# EAGLE library part AT91SAM7X (library JLB6_Processor)
AT91SAM7X Atmel smart ARM
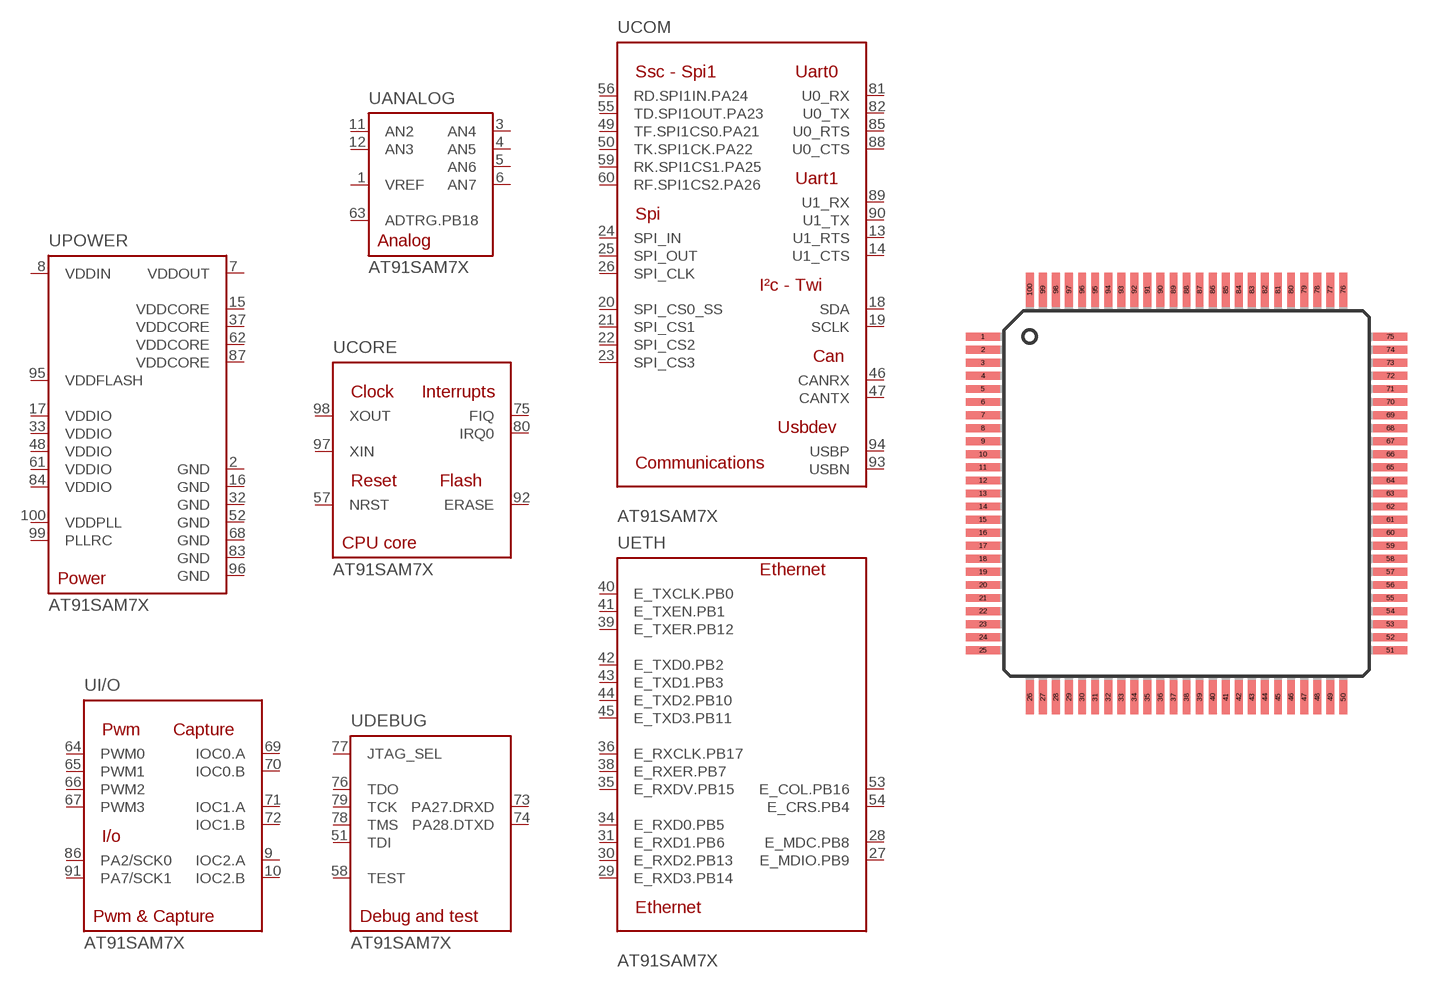
[diagram p9: symbol with the pads of TQFP100-05; footprint TQFP100-05]

Designator prefix U; gates CORE=91SAM7X_CPU DEBUG=91SAM7X_DEBUG I/O=91SAM7X_IO ANALOG=91SAM7X_ANALOG POWER=91SAM7X_PWR ETH=91SAM7X_ETHER COM=91SAM7X_COM

## AT91SAM7X  [TQFP100-05]
1  ANALOG:VREF  in
2  POWER:GND  pwr
3  ANALOG:AN4
4  ANALOG:AN5
5  ANALOG:AN6
6  ANALOG:AN7
7  POWER:VDDOUT  pwr
8  POWER:VDDIN  pwr
9  I/O:IOC2.A
10  I/O:IOC2.B
11  ANALOG:AN2
12  ANALOG:AN3
13  COM:U1_RTS
14  COM:U1_CTS
15  POWER:VDDCORE  pwr
16  POWER:GND  pwr
17  POWER:VDDIO  pwr
18  COM:SDA
19  COM:SCLK
20  COM:SPI_CS0_SS
21  COM:SPI_CS1
22  COM:SPI_CS2
23  COM:SPI_CS3
24  COM:SPI_IN
25  COM:SPI_OUT
26  COM:SPI_CLK
27  ETH:E_MDIO.PB9
28  ETH:E_MDC.PB8
29  ETH:E_RXD3.PB14
30  ETH:E_RXD2.PB13
31  ETH:E_RXD1.PB6
32  POWER:GND  pwr
33  POWER:VDDIO  pwr
34  ETH:E_RXD0.PB5
35  ETH:E_RXDV.PB15
36  ETH:E_RXCLK.PB17
37  POWER:VDDCORE  pwr
38  ETH:E_RXER.PB7
39  ETH:E_TXER.PB12
40  ETH:E_TXCLK.PB0
41  ETH:E_TXEN.PB1
42  ETH:E_TXD0.PB2
43  ETH:E_TXD1.PB3
44  ETH:E_TXD2.PB10
45  ETH:E_TXD3.PB11
46  COM:CANRX
47  COM:CANTX
48  POWER:VDDIO  pwr
49  COM:TF.SPI1CS0.PA21
50  COM:TK.SPI1CK.PA22
51  DEBUG:TDI
52  POWER:GND  pwr
53  ETH:E_COL.PB16
54  ETH:E_CRS.PB4
55  COM:TD.SPI1OUT.PA23
56  COM:RD.SPI1IN.PA24
57  CORE:NRST
58  DEBUG:TEST  pas
59  COM:RK.SPI1CS1.PA25
60  COM:RF.SPI1CS2.PA26
61  POWER:VDDIO  pwr
62  POWER:VDDCORE  pwr
63  ANALOG:ADTRG.PB18
64  I/O:PWM0
65  I/O:PWM1
66  I/O:PWM2
67  I/O:PWM3
68  POWER:GND  pwr
69  I/O:IOC0.A
70  I/O:IOC0.B
71  I/O:IOC1.A
72  I/O:IOC1.B
73  DEBUG:PA27.DRXD
74  DEBUG:PA28.DTXD
75  CORE:FIQ
76  DEBUG:TDO
77  DEBUG:JTAG_SEL  pas
78  DEBUG:TMS
79  DEBUG:TCK
80  CORE:IRQ0
81  COM:U0_RX
82  COM:U0_TX
83  POWER:GND  pwr
84  POWER:VDDIO  pwr
85  COM:U0_RTS
86  I/O:PA2/SCK0
87  POWER:VDDCORE  pwr
88  COM:U0_CTS
89  COM:U1_RX
90  COM:U1_TX
91  I/O:PA7/SCK1
92  CORE:ERASE  pas
93  COM:USBN
94  COM:USBP
95  POWER:VDDFLASH  pas
96  POWER:GND  pwr
97  CORE:XIN  in
98  CORE:XOUT  out
99  POWER:PLLRC  pas
100  POWER:VDDPLL  pwr

## Footprint TQFP100-05 (pad centres in mm)
smd 1.3 x 0.3: 1 -7.797,6; 2 -7.797,5.5; 3 -7.797,5; 4 -7.797,4.5; 5 -7.797,4; 6 -7.797,3.5; 7 -7.797,3; 8 -7.797,2.5; 9 -7.797,2; 10 -7.797,1.5; 11 -7.797,1; 12 -7.797,0.5; 13 -7.797,0; 14 -7.797,-0.5; 15 -7.797,-1; 16 -7.797,-1.5; 17 -7.797,-2; 18 -7.797,-2.5; 19 -7.797,-3; 20 -7.797,-3.5; 21 -7.797,-4; 22 -7.797,-4.5; 23 -7.797,-5; 24 -7.797,-5.5; 25 -7.797,-6; 51 7.797,-6; 52 7.797,-5.5; 53 7.797,-5; 54 7.797,-4.5; 55 7.797,-4; 56 7.797,-3.5; 57 7.797,-3; 58 7.797,-2.5; 59 7.797,-2; 60 7.797,-1.5; 61 7.797,-1; 62 7.797,-0.5; 63 7.797,0; 64 7.797,0.5; 65 7.797,1; 66 7.797,1.5; 67 7.797,2; 68 7.797,2.5; 69 7.797,3; 70 7.797,3.5; 71 7.797,4; 72 7.797,4.5; 73 7.797,5; 74 7.797,5.5; 75 7.797,6
smd 0.3 x 1.3: 26 -6,-7.797; 27 -5.5,-7.797; 28 -5,-7.797; 29 -4.5,-7.797; 30 -4,-7.797; 31 -3.5,-7.797; 32 -3,-7.797; 33 -2.5,-7.797; 34 -2,-7.797; 35 -1.5,-7.797; 36 -1,-7.797; 37 -0.5,-7.797; 38 0,-7.797; 39 0.5,-7.797; 40 1,-7.797; 41 1.5,-7.797; 42 2,-7.797; 43 2.5,-7.797; 44 3,-7.797; 45 3.5,-7.797; 46 4,-7.797; 47 4.5,-7.797; 48 5,-7.797; 49 5.5,-7.797; 50 6,-7.797; 76 6,7.797; 77 5.5,7.797; 78 5,7.797; 79 4.5,7.797; 80 4,7.797; 81 3.5,7.797; 82 3,7.797; 83 2.5,7.797; 84 2,7.797; 85 1.5,7.797; 86 1,7.797; 87 0.5,7.797; 88 0,7.797; 89 -0.5,7.797; 90 -1,7.797; 91 -1.5,7.797; 92 -2,7.797; 93 -2.5,7.797; 94 -3,7.797; 95 -3.5,7.797; 96 -4,7.797; 97 -4.5,7.797; 98 -5,7.797; 99 -5.5,7.797; 100 -6,7.797